# EAGLE library part PIN8 (library zkseagle)
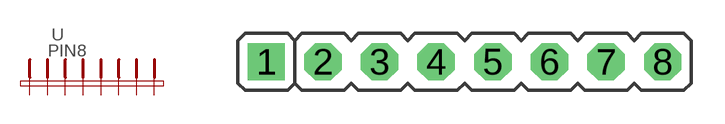
[diagram p11: symbol with the pads of PIN8_P; footprint PIN8_P]

Designator prefix -

## PIN8  [PIN8_P]
1  1  pas
2  2  pas
3  3  pas
4  4  pas
5  5  pas
6  6  pas
7  7  pas
8  8  pas

## Footprint PIN8_P (pad centres in mm)
drill 1 pad 1.676 square: 1 -7.62,0
drill 1 pad 1.676 octagon: 2 -5.08,0; 3 -2.54,0; 4 0,0; 5 2.54,0; 6 5.08,0; 7 7.62,0; 8 10.16,0